# EAGLE library part 0749603018 (library D-Sub Connectors)
CONN D-TYPE RCPT 18POS SMD R/A Manufacturer's datasheet <https://www.molex.com/pdm_docs/sd/749603018_sd.pdf>
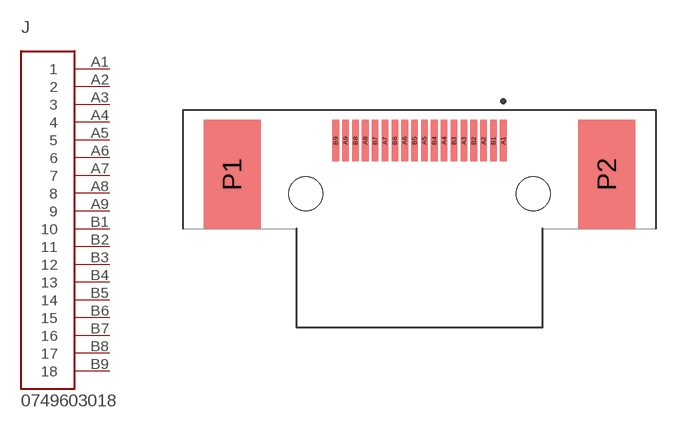
[diagram p20: symbol with the pads of 0749603018; footprint 0749603018]

Designator prefix J

## 0749603018 (CREATED_BY: PCBLayout.com; DIGIKEY_PART_NUMBER: WM1158TR-ND; MANUFACTURER: Molex; MPN: 0749603018)  [0749603018]
A1  1  pas
A2  2  pas
A3  3  pas
A4  4  pas
A5  5  pas
A6  6  pas
A7  7  pas
A8  8  pas
A9  9  pas
B1  10  pas
B2  11  pas
B3  12  pas
B4  13  pas
B5  14  pas
B6  15  pas
B7  16  pas
B8  17  pas
B9  18  pas

## Footprint 0749603018 (pad centres in mm)
smd 0.43 x 2.67: A1 5.397,3.405; A2 4.128,3.405; A3 2.857,3.405; A4 1.587,3.405; A5 0.318,3.405; A6 -0.953,3.405; A7 -2.223,3.405; A8 -3.493,3.405; A9 -4.763,3.405; B1 4.763,3.405; B2 3.493,3.405; B3 2.223,3.405; B4 0.953,3.405; B5 -0.318,3.405; B6 -1.587,3.405; B7 -2.857,3.405; B8 -4.128,3.405; B9 -5.397,3.405
smd 3.68 x 7: P1 -12.065,1.24
smd 3.67 x 7: P2 12.065,1.24
hole 2.18 at -7.33,0
hole 2.18 at 7.33,0